# Altium schematic symbol library LibZynqEvalBoard.SchLib: 81 symbols (part 2 of 2)
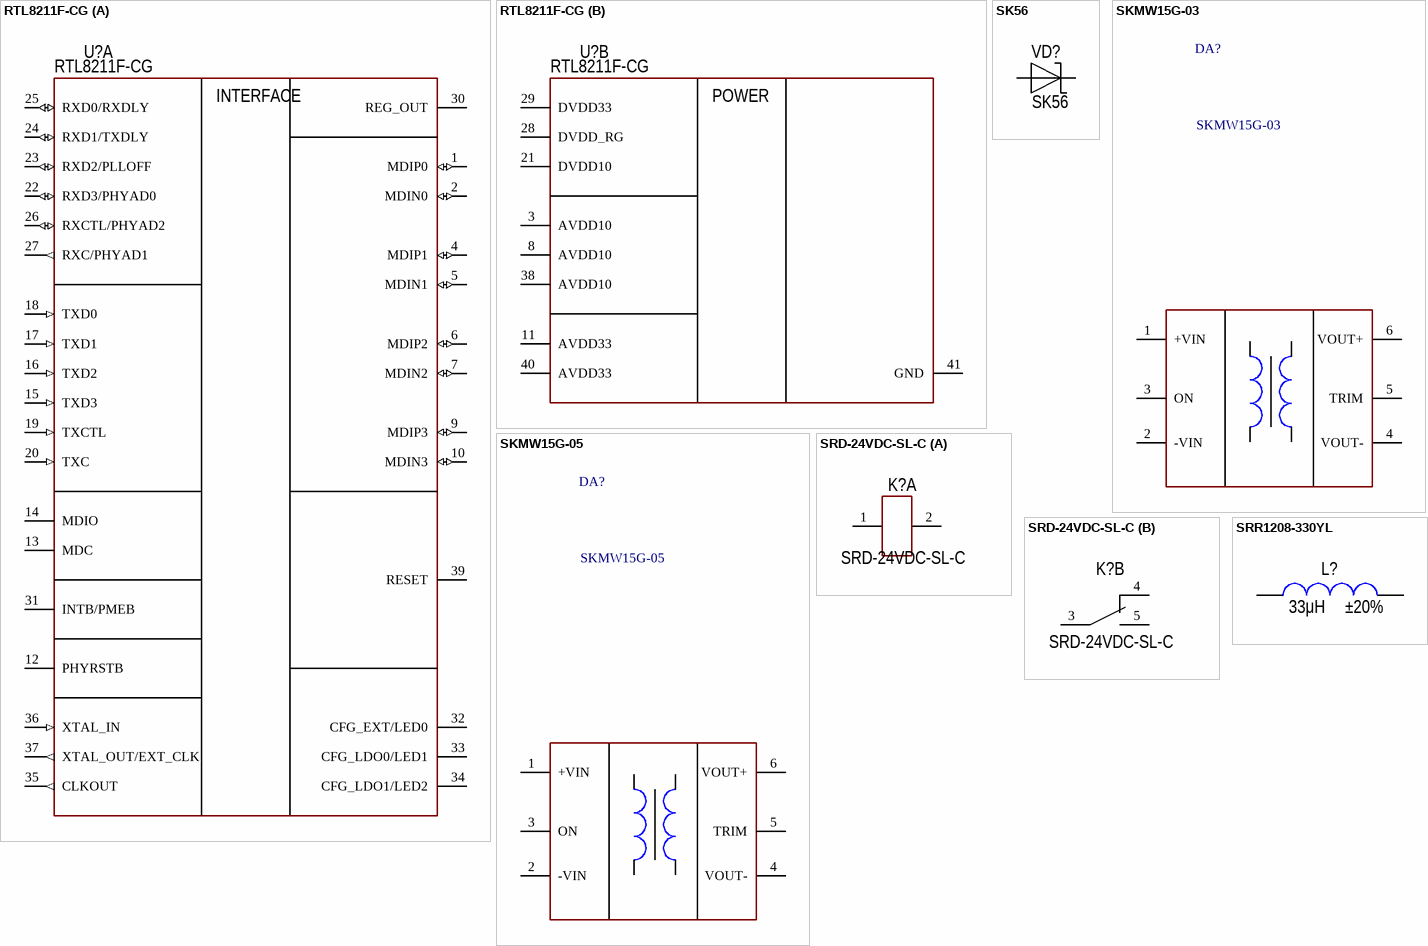
[diagram p12: symbols RTL8211F-CG to SRR1208-330YL]

## SKMW15G-03
designator DA?
Isolated DC/DC Converters 18-75Vin 5V 3A 15W DIP 1x1 Iso Reg; Manufacturer_Name: Mean Well; Geometry.Height: 11.2mm; Mouser Part Number: SKMW15G-03; Mouser Price/Stock: https://www.mouser.co.uk/ProductDetail/MEAN-WELL/SKMW15G-05?qs=hWgE7mdIu5TatoZEeiqfiA%3D%3D; Arrow Part Number: *; Arrow Price/Stock: *; Datasheet Link: http://www.meanwell.com.tw/webapp/product/search.aspx?prod=SKMW15; PartNumber: SKMW15G-03
footprint DC:SKMW15G05
pins: 1 +VIN (power), 2 -VIN (power), 3 ON (power), 4 VOUT- (power), 5 TRIM (power), 6 VOUT+ (power)

## SKMW15G-05
designator DA?
Isolated DC/DC Converters 18-75Vin 5V 3A 15W DIP 1x1 Iso Reg; Manufacturer_Name: Mean Well; Geometry.Height: 11.2mm; Mouser Part Number: 709-SKMW15G-05; Mouser Price/Stock: https://www.mouser.co.uk/ProductDetail/MEAN-WELL/SKMW15G-05?qs=hWgE7mdIu5TatoZEeiqfiA%3D%3D; Arrow Part Number: *; Arrow Price/Stock: *; Datasheet Link: http://www.meanwell.com.tw/webapp/product/search.aspx?prod=SKMW15; PartNumber: SKMW15G-05
footprint DC:SKMW15G05
pins: 1 +VIN (power), 2 -VIN (power), 3 ON (power), 4 VOUT- (power), 5 TRIM (power), 6 VOUT+ (power)

## SRD-24VDC-SL-C
designator K?  PartNumber: SRD-24VDC-SL-C
Manufacturer: SONGLE; ValueManufacturerPartNumber: Electromechanics relay, 24VDC, 250VAC, 10A, 1NO-1NC, -40...+85°C; TypeRelay: Electromechanics relay; VoltageMax: 250VAC; VoltageControlCoil: 24VDC; MaxCurrent: 10A; Package: 1NO-1NC; HelpURL: https://smdx.ru/srd-24vdc-sl-c?frommarket=https%3A%2F%2Fmarket.yandex.ru%2Fsearch%3Frs%3DeJwzSvKS4xIL9w9KjzcNitf1jkoNzCoLdQoodMovl2BUYNBgAMmHhgSEROQYGqXEV0VFujm7eucZFvg4IuRNi8IydTMKqqrikwuLCsyqHM1y3S3TIfIRDABLfBo8%26text%3Dsrd-24vdc-sl-c%26lr%3D2%26wprid%3D1621599515404748-9097901062674496&ymclid=16215995571057768628600002; Temperature: -40...+85°C
footprint REL: SRD-24VDC
part A pins: 1, 2
part B pins: 3, 4, 5

## SRR1208-330YL
designator L?  value 33μH  Tolerance: ±20%
Manufacturer: Bourns; PartNumber: SRR1208-330YL; ValueManufacturerPartNumber: Fixed inductor, 33μH, ±20%, SRR1208, 2.8mA, -55...+125°C; TypeInductor: Fixed inductor; MaxCurrent: 2.8mA; Package: SRR1208; HelpURL: https://static.chipdip.ru/lib/170/DOC011170276.pdf; Temperature: -55...+125°C
footprint IND: SRR1208
pins: 1, 2

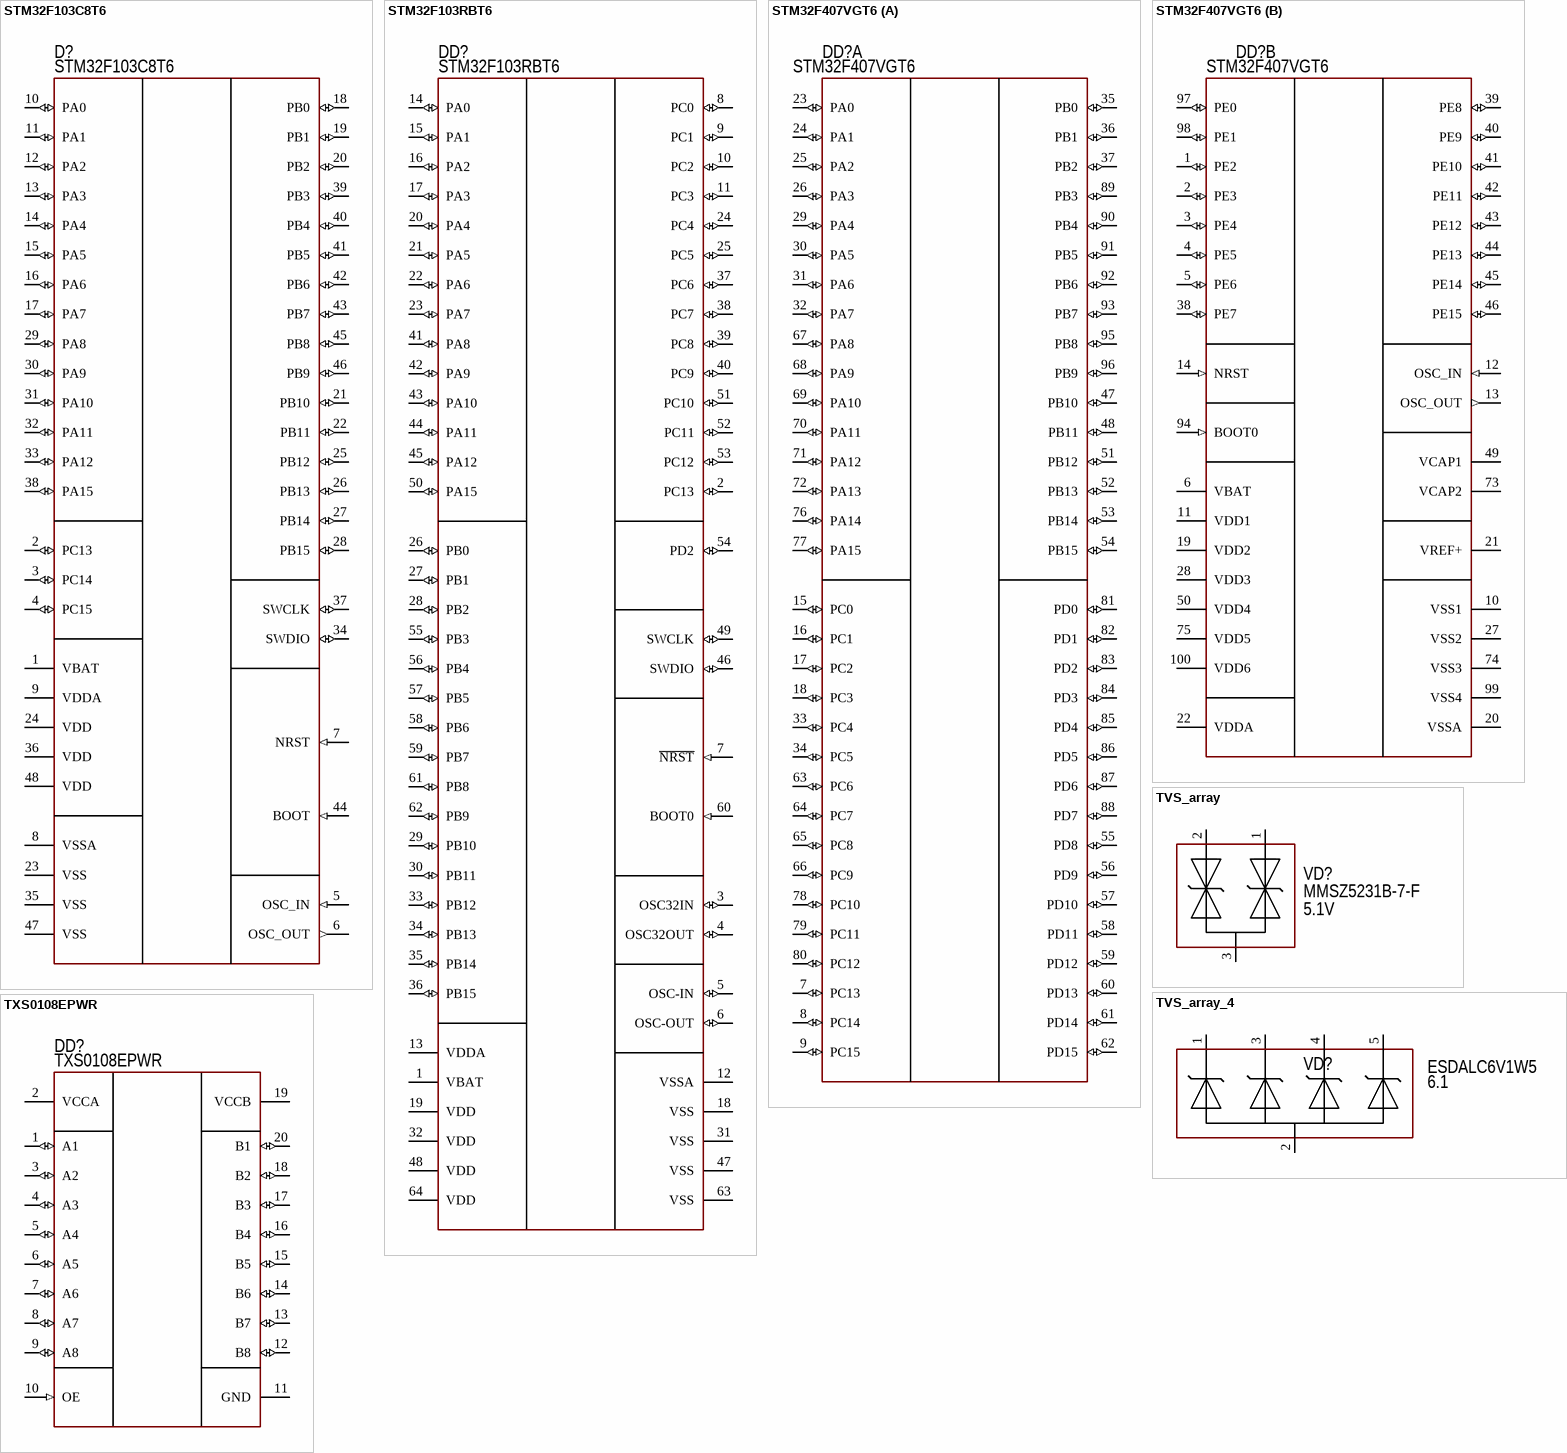
[diagram p8: symbols STM32F103C8T6 to TXS0108EPWR]

## STM32F103C8T6
designator D?  PartNumber: STM32F103C8T6
Cortex-M3; Manufacturer: STMicroelectronics; ValueManufacturerPartNumber: IC microcontroller, 32-Bit, Cortex-M3, 72MHz, 128KB, 20KB, 2...3.6V, -40...+85°C, 48-LQFP; Supply: 2...3.6V; Speed: 72MHz; CoreSize: 32-Bit; MemoryROM: 128KB; MemoryRAM: 20KB; HelpURL: https://www.st.com/en/microcontrollers-microprocessors/stm32f103cb.html; Package: 48-LQFP; ComponentType: IC microcontroller; Temperature: -40...+85°C; CoreProcessor: Cortex-M3
footprint 48-LQFP (QFP, 48-Leads, Body 7x7mm, Pitch 0.5mm, IPC Medium Density)
pins: 1 VBAT (power), 2 PC13 (io), 3 PC14 (io), 4 PC15 (io), 5 OSC_IN (in), 6 OSC_OUT (out), 7 NRST (in), 8 VSSA (power), 9 VDDA (power), 10 PA0 (io), 11 PA1 (io), 12 PA2 (io), 13 PA3 (io), 14 PA4 (io), 15 PA5 (io), 16 PA6 (io), 17 PA7 (io), 18 PB0 (io), 19 PB1 (io), 20 PB2 (io), 21 PB10 (io), 22 PB11 (io), 23 VSS (power), 24 VDD (power), 25 PB12 (io), 26 PB13 (io), 27 PB14 (io), 28 PB15 (io), 29 PA8 (io), 30 PA9 (io), 31 PA10 (io), 32 PA11 (io), 33 PA12 (io), 34 SWDIO (io), 35 VSS (power), 36 VDD (power), 37 SWCLK (io), 38 PA15 (io), 39 PB3 (io), 40 PB4 (io), 41 PB5 (io), 42 PB6 (io), 43 PB7 (io), 44 BOOT (in), 45 PB8 (io), 46 PB9 (io), 47 VSS (power), 48 VDD (power)

## STM32F103RBT6
designator DD?  PartNumber: STM32F103RBT6
Cortex-M3; Manufacturer: STMicroelectronics; ValueManufacturerPartNumber: IC microcontroller, 32-Bit, Cortex-M3, 72MHz, 128KB, 20KB, 2...3.6V, -40...+85°C, 64-LQFP; Supply: 2...3.6V; Speed: 72MHz; CoreSize: 32-Bit; MemoryROM: 128KB; MemoryRAM: 20KB; HelpURL: https://www.st.com/en/microcontrollers-microprocessors/stm32f103rb.html#overview; Package: 64-LQFP; ComponentType: IC microcontroller; Temperature: -40...+85°C; CoreProcessor: Cortex-M3
footprint 64-LQFP (Thin QFP, 64-Leads, Body 10x10mm, Pitch 0.5mm, IPC Medium Density)
pins: 1 VBAT (power), 2 PC13 (io), 3 OSC32IN (io), 4 OSC32OUT (io), 5 OSC-IN (io), 6 OSC-OUT (io), 7 ~{NRST} (in), 8 PC0 (io), 9 PC1 (io), 10 PC2 (io), 11 PC3 (io), 12 VSSA (power), 13 VDDA (power), 14 PA0 (io), 15 PA1 (io), 16 PA2 (io), 17 PA3 (io), 18 VSS (power), 19 VDD (power), 20 PA4 (io), 21 PA5 (io), 22 PA6 (io), 23 PA7 (io), 24 PC4 (io), 25 PC5 (io), 26 PB0 (io), 27 PB1 (io), 28 PB2 (io), 29 PB10 (io), 30 PB11 (io), 31 VSS (power), 32 VDD (power), 33 PB12 (io), 34 PB13 (io), 35 PB14 (io), 36 PB15 (io), 37 PC6 (io), 38 PC7 (io), 39 PC8 (io), 40 PC9 (io), 41 PA8 (io), 42 PA9 (io), 43 PA10 (io), 44 PA11 (io), 45 PA12 (io), 46 SWDIO (io), 47 VSS (power), 48 VDD (power), 49 SWCLK (io), 50 PA15 (io), 51 PC10 (io), 52 PC11 (io), 53 PC12 (io), 54 PD2 (io), 55 PB3 (io), 56 PB4 (io), 57 PB5 (io), 58 PB6 (io), 59 PB7 (io), 60 BOOT0 (in), 61 PB8 (io), 62 PB9 (io), 63 VSS (power), 64 VDD (power)

## STM32F407VGT6
designator DD?  PartNumber: STM32F407VGT6
MCU 32-Bit, ARM Cortex M4, 1MB Flash STMicroelectronics STM32F407VGT6, 32bit ARM Cortex M4F Microcontroller, 168MHz, 1024 kB Flash, 100-Pin LQFP; ValueManufacturerPartNumber: IC microcontroller, 32-Bit, Cortex-M4, 72MHz, 1 M(1m x 8), 192k x 8, 2...3.6V, -40...+85°C, 100-LQFP; Supply: 2...3.6V; Speed: 72MHz; MemoryROM: 1 M(1m x 8); MemoryRAM: 192k x 8; CoreProcessor: Cortex-M4; Manufacturer: STMicroelectronics; HelpURL: https://www.st.com/en/microcontrollers-microprocessors/stm32f103cb.html; Package: 100-LQFP; ComponentType: IC microcontroller; Temperature: -40...+85°C; CoreSize: 32-Bit
footprint MCU: LQFP100
part A pins: 7 PC13 (io), 8 PC14 (io), 9 PC15 (io), 15 PC0 (io), 16 PC1 (io), 17 PC2 (io), 18 PC3 (io), 23 PA0 (io), 24 PA1 (io), 25 PA2 (io), 26 PA3 (io), 29 PA4 (io), 30 PA5 (io), 31 PA6 (io), 32 PA7 (io), 33 PC4 (io), 34 PC5 (io), 35 PB0 (io), 36 PB1 (io), 37 PB2 (io), 47 PB10 (io), 48 PB11 (io), 51 PB12 (io), 52 PB13 (io), 53 PB14 (io), 54 PB15 (io), 55 PD8 (io), 56 PD9 (io), 57 PD10 (io), 58 PD11 (io), 59 PD12 (io), 60 PD13 (io), 61 PD14 (io), 62 PD15 (io), 63 PC6 (io), 64 PC7 (io), 65 PC8 (io), 66 PC9 (io), 67 PA8 (io), 68 PA9 (io), 69 PA10 (io), 70 PA11 (io), 71 PA12 (io), 72 PA13 (io), 76 PA14 (io), 77 PA15 (io), 78 PC10 (io), 79 PC11 (io), 80 PC12 (io), 81 PD0 (io), 82 PD1 (io), 83 PD2 (io), 84 PD3 (io), 85 PD4 (io), 86 PD5 (io), 87 PD6 (io), 88 PD7 (io), 89 PB3 (io), 90 PB4 (io), 91 PB5 (io), 92 PB6 (io), 93 PB7 (io), 95 PB8 (io), 96 PB9 (io)
part B pins: 1 PE2 (io), 2 PE3 (io), 3 PE4 (io), 4 PE5 (io), 5 PE6 (io), 6 VBAT (power), 10 VSS1 (power), 11 VDD1 (power), 12 OSC_IN (in), 13 OSC_OUT (out), 14 NRST (in), 19 VDD2 (power), 20 VSSA (power), 21 VREF+ (power), 22 VDDA (power), 27 VSS2 (power), 28 VDD3 (power), 38 PE7 (io), 39 PE8 (io), 40 PE9 (io), 41 PE10 (io), 42 PE11 (io), 43 PE12 (io), 44 PE13 (io), 45 PE14 (io), 46 PE15 (io), 49 VCAP1 (power), 50 VDD4 (power), 73 VCAP2 (power), 74 VSS3 (power), 75 VDD5 (power), 94 BOOT0 (in), 97 PE0 (io), 98 PE1 (io), 99 VSS4 (power), 100 VDD6 (power)

## TVS_array
designator VD?  Voltage: 5.1V  PartNumber: MMSZ5231B-7-F
Manufacturer: Diodes Incorporated; ValueManufacturerPartNumber: Zener diode, 5.1V, 500mW, 0.9V, 17Ohm, SOD-123, -55...+150°C; TypeDiode: Zener diode; Current: 500mW; VoltageDrop: 0.9V; RecoveryTime: 17Ohm; Package: SOD-123; HelpURL: https://www.digikey.com/product-detail/en/diodes-incorporated/MMSZ5231B-7-F/MMSZ5231B-FDICT-ND/755506; Temperature: -55...+150°C
footprint SOT23
pins: 1, 2, 3

## TVS_array_4
designator VD?  Voltage: 6.1  PartNumber: ESDALC6V1W5
QUAD TRANSIL ARRAY FOR ESD PROTECTION; Manufacturer: STMicroelectronics; ValueManufacturerPartNumber: TVS array diode, 6.1, 500mW, 0.9V, 17Ohm, SOT23-5, -55...+150°C; TypeDiode: TVS array diode; Current: 500mW; VoltageDrop: 0.9V; RecoveryTime: 17Ohm; Package: SOT23-5; HelpURL: https://www.st.com/en/protections-and-emi-filters/esdalc6v1w.html; Temperature: -55...+150°C
footprint SOT23-5 (pitch 0.95 mm)
pins: 1, 2, 3, 4, 5

## TXS0108EPWR
designator DD?  PartNumber: TXS0108EPWR
1.65V~5.5V 1 8 1.4V~3.6V 60Mbps TSSOP-20 Translators / Level Shifters ROHS; Manufacturer: Texas Instruments; VoltageInput: VCC(A)1.2..3.6/VCC(B)1.65..5.5; HelpURL: https://www.lcsc.com/product-detail/Translators-Level-Shifters_Texas-Instruments-TXS0108EPWR_C17206.html; Package: TSSOP-20; ComponentType: Voltage-Level Shifter; ValueManufacturerPartNumber: =ComponentType+', '+VoltageInput+', '+MaxDropout+', '+VoltageOutput+', '+CurrentOutput+', '+Temperature+', '+Package; Temperature: -40...+85°C
footprint IC:TSSOP-20
pins: 1 A1 (io), 2 VCCA, 3 A2 (io), 4 A3 (io), 5 A4 (io), 6 A5 (io), 7 A6 (io), 8 A7 (io), 9 A8 (io), 10 OE (in), 11 GND, 12 B8 (io), 13 B7 (io), 14 B6 (io), 15 B5 (io), 16 B4 (io), 17 B3 (io), 18 B2 (io), 19 VCCB, 20 B1 (io)

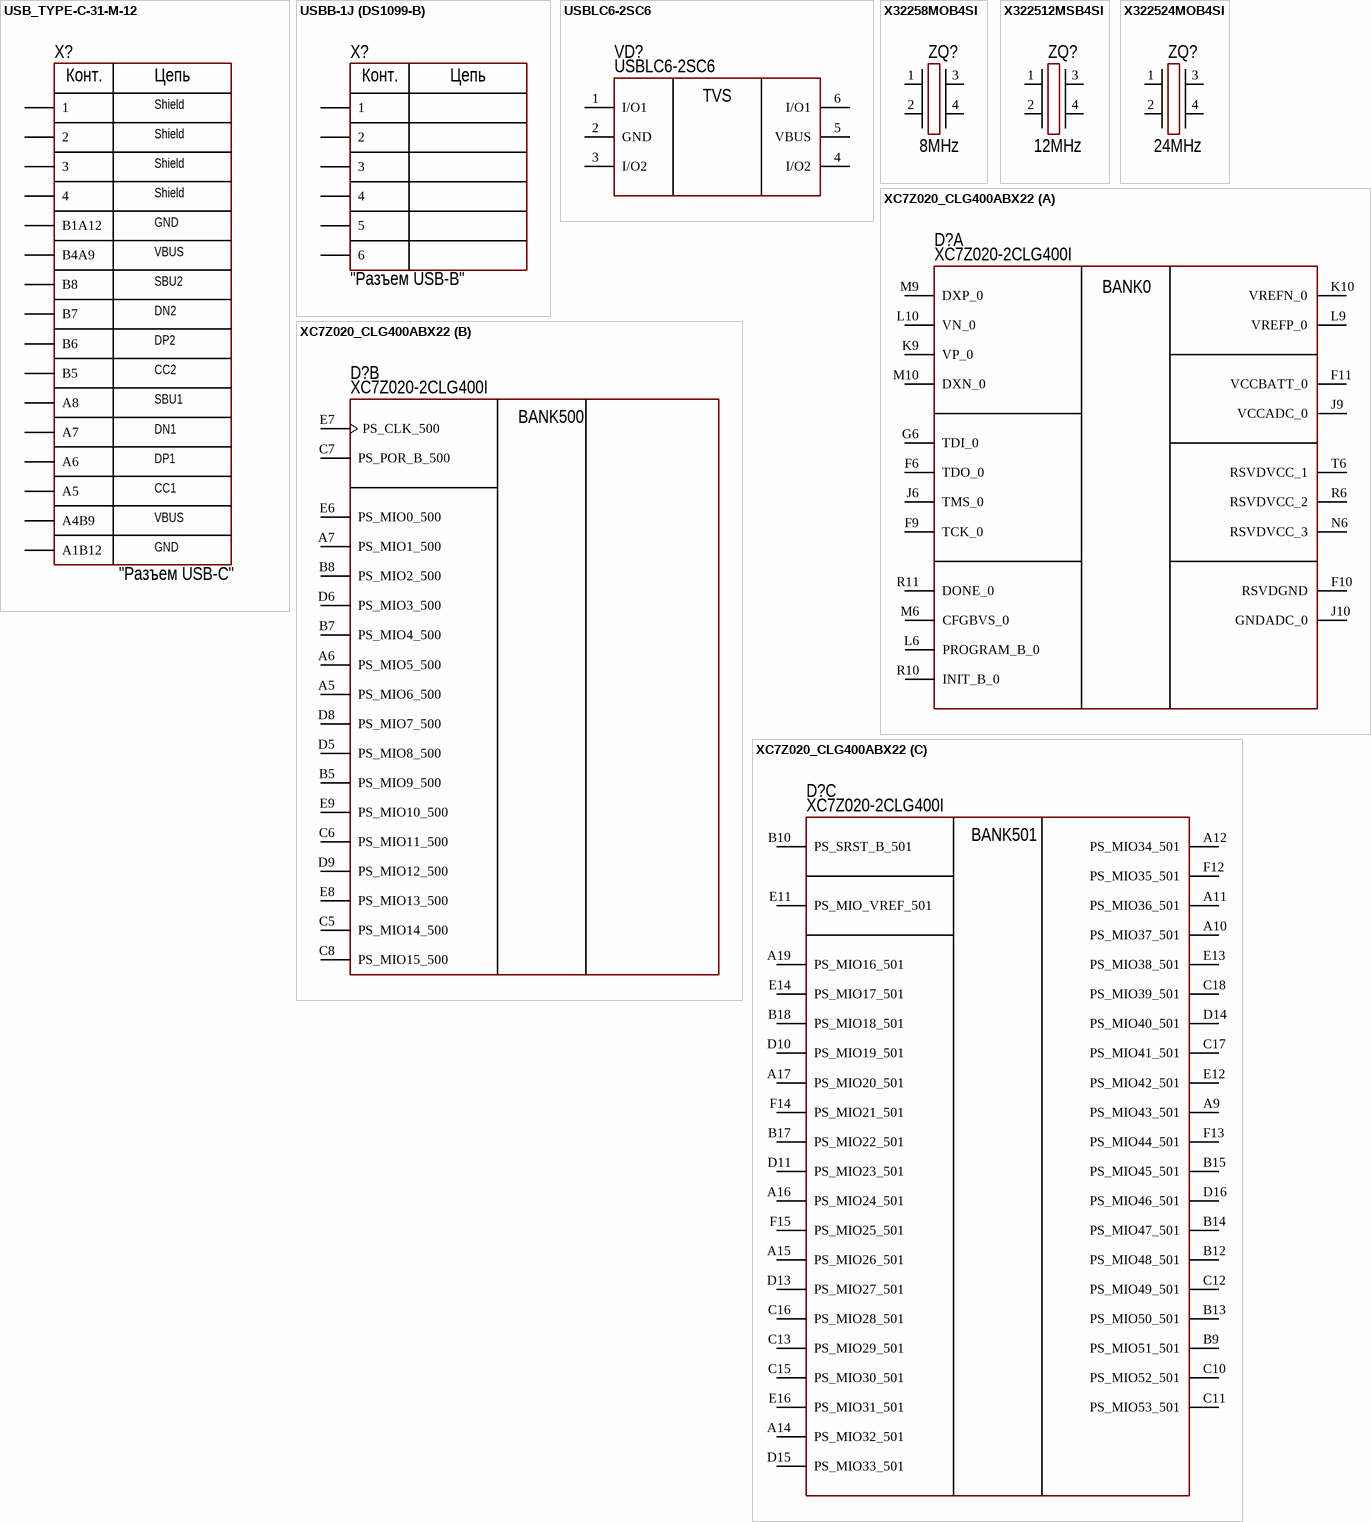
[diagram p9: symbols USB_TYPE-C-31-M-12 to XC7Z020_CLG400ABX22]

## USB_TYPE-C-31-M-12
designator X?  CommentText: "Разъем USB-C"
5A 1 16P Female Type-C SMD USB Connectors ROHS; Manufacturer: Korean Hroparts Elec; ValueManufacturerPartNumber: Connector, 14pin, *, *, *; PartNumber: TYPE-C-31-M-12; Multichannel: 14pin; HelpURL: https://www.lcsc.com/product-detail/USB-Connectors_Korean-Hroparts-Elec-TYPE-C-31-M-12_C165948.html; TypeConnector: Connector; VoltageMax: *; Pitch: *; CurrentMax: *
footprint CON: TYPE-C-31-M-12
pins: 1, 2, 3 (power), 4 (power), A1B12 (power), A4B9 (power), A5 (power), A6 (power), A7 (power), A8 (power), B1A12 (power), B4A9 (power), B5 (power), B6 (power), B7 (power), B8 (power)
text: Конт.; Цепь; Shield; GND; VBUS; SBU2; DN2; DP2; CC2; SBU1; DN1; DP1; CC1

## USBB-1J (DS1099-B)
designator X?  CommentText: "Разъем USB-B"
Manufacturer: Connfly; ValueManufacturerPartNumber: Connector, 6pin, *, *, *; PartNumber: USBB-1J (DS1099-B); TypeConnector: Connector; Multichannel: 6pin; HelpURL: https://www.chipdip.ru/product/usbb-1j-ds1099-b; VoltageMax: *; Pitch: *; CurrentMax: *
footprint CON: USB-B
pins: 1, 2, 3 (power), 4 (power), 5 (power), 6 (power)
text: Конт.; Цепь

## USBLC6-2SC6
designator VD?  PartNumber: USBLC6-2SC6
±30kV SOT-23-6 ESD Protection Devices ROHS; Manufacturer: TECH PUBLIC; ValueManufacturerPartNumber: Protection Devices ROHS, *, *, *, *, -40...+85°C, SOT-23-6; HelpURL: https://www.lcsc.com/product-detail/ESD-Protection-Devices_TECH-PUBLIC-USBLC6-2SC6_C2827654.html; Package: SOT-23-6; ComponentType: Protection Devices ROHS; Temperature: -40...+85°C; VoltageInput: *; MaxDropout: *; CurrentOutput: *; VoltageOutput: *
footprint SOT23-6 (pitch 0.95 mm)
pins: 1 I/O1, 2 GND, 3 I/O2, 4 I/O2, 5 VBUS, 6 I/O1
text: TVS

## X32258MOB4SI
designator ZQ?  Frequency: 8MHz
Manufacturer: Diodes Incorporated; PartNumber: X32258MOB4SI; ValueManufacturerPartNumber: Crystal, 8MHz, 12pF, ±30ppm, SMD3225-4P, -40...+85°C; TypeOscilator: Crystal; LoadCapacitance: 12pF; Tolerance: ±30ppm; Package: SMD3225-4P; HelpURL: https://www.lcsc.com/product-detail/Crystals_Yangxing-Tech-X32258MOB4SI_C2682775.html; Temperature: -40...+85°C
footprint X32258MOB4SI
pins: 1, 2, 3, 4

## X322512MSB4SI
designator ZQ?  Frequency: 12MHz
12MHz 20pF ±10ppm ±30ppm SMD3225-4P Crystals ROHS; Manufacturer: YXC; PartNumber: X322524MOB4SI; ValueManufacturerPartNumber: Crystal, 12MHz, 12pF, ±30ppm, SMD3225-4P, -40...+85°C; LoadCapacitance: 12pF; Package: SMD3225-4P; HelpURL: https://www.lcsc.com/product-detail/Crystals_YXC-X322512MSB4SI_C9002.html; Temperature: -40...+85°C; TypeOscilator: Crystal; Tolerance: ±30ppm
footprint X32258MOB4SI
pins: 1, 2, 3, 4

## X322524MOB4SI
designator ZQ?  Frequency: 24MHz
Manufacturer: Diodes Incorporated; PartNumber: X322524MOB4SI; ValueManufacturerPartNumber: Crystal, 24MHz, 12pF, ±30ppm, SMD3225-4P, -40...+85°C; TypeOscilator: Crystal; LoadCapacitance: 12pF; Tolerance: ±30ppm; Package: SMD3225-4P; HelpURL: https://datasheet.lcsc.com/lcsc/2305121746_Yangxing-Tech-X322524MOB4SI_C70590.pdf; Temperature: -40...+85°C
footprint X32258MOB4SI
pins: 1, 2, 3, 4

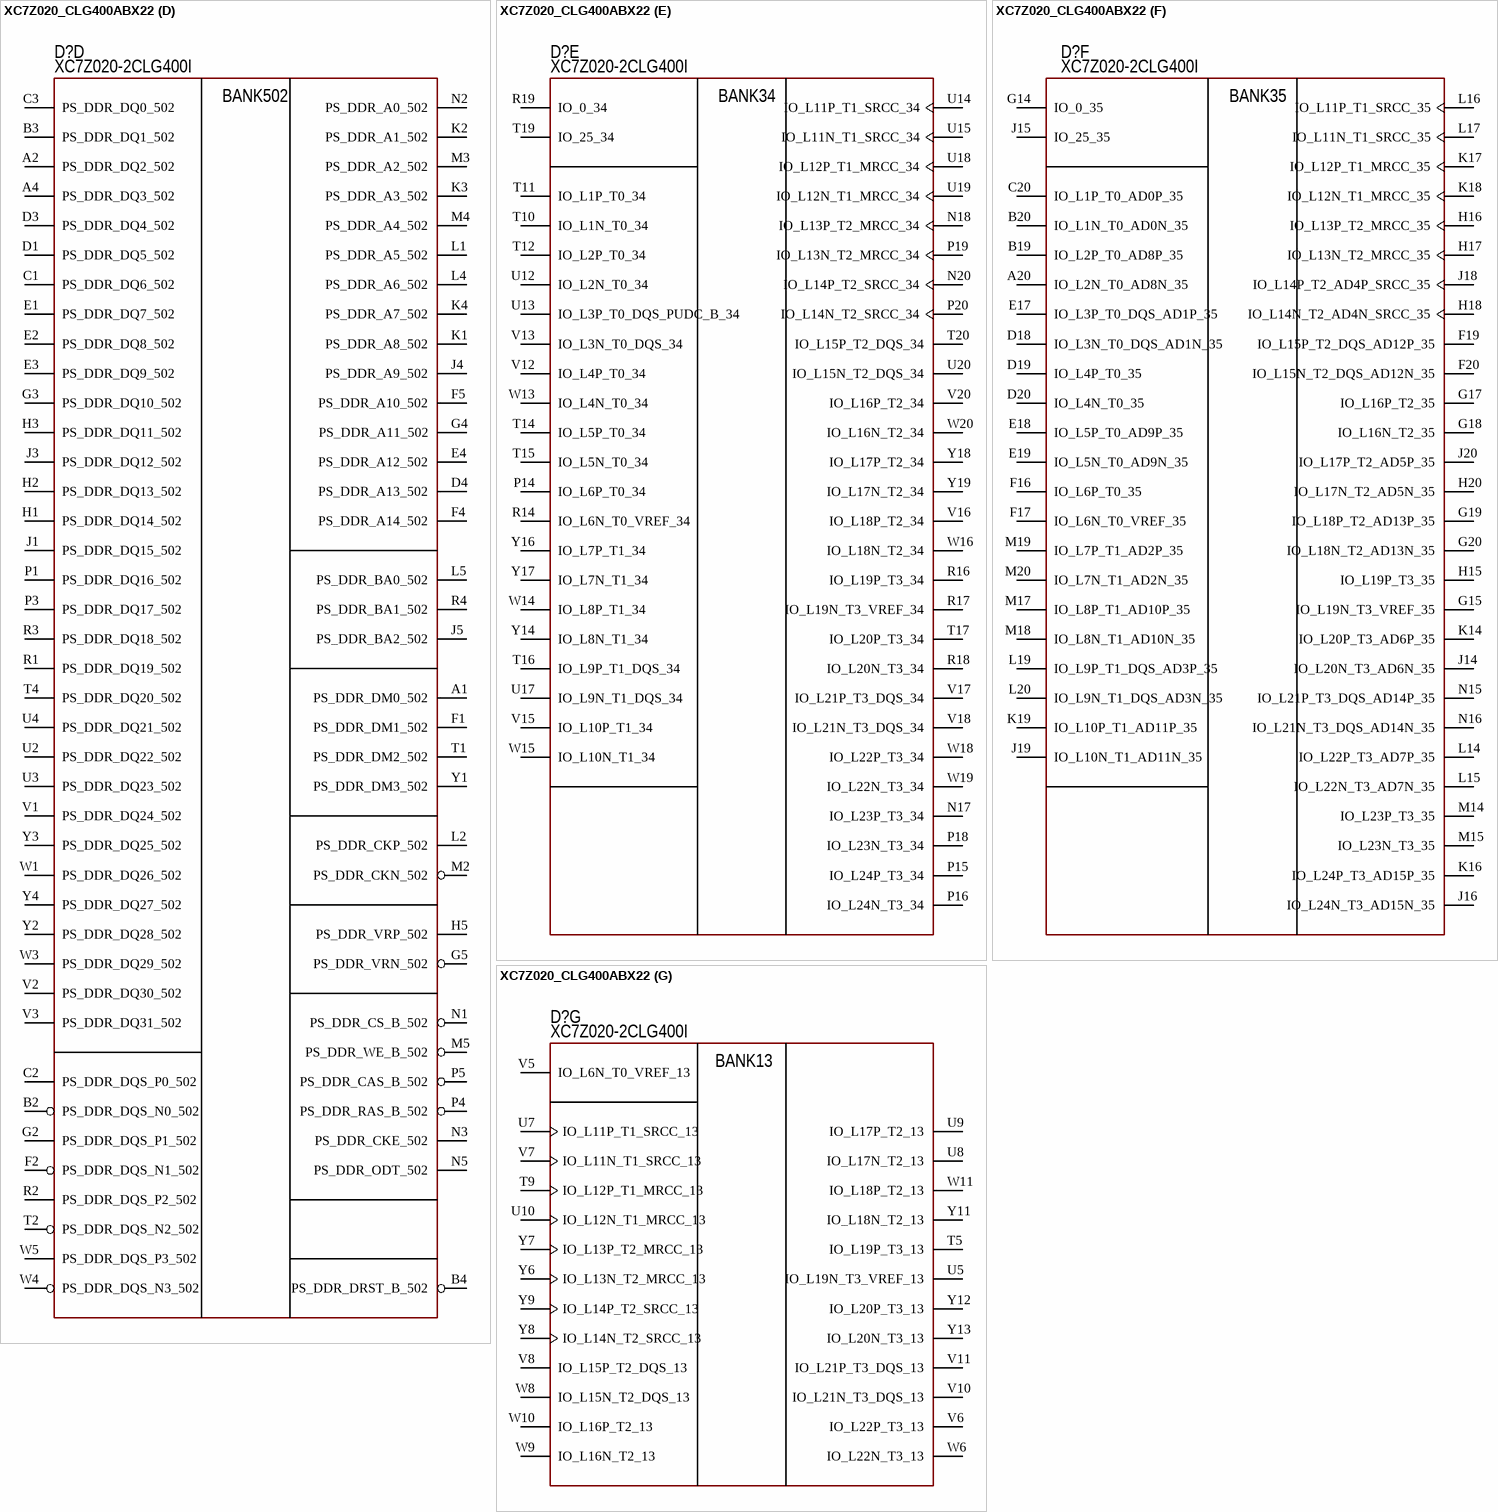
[diagram p10: symbol XC7Z020_CLG400ABX22]

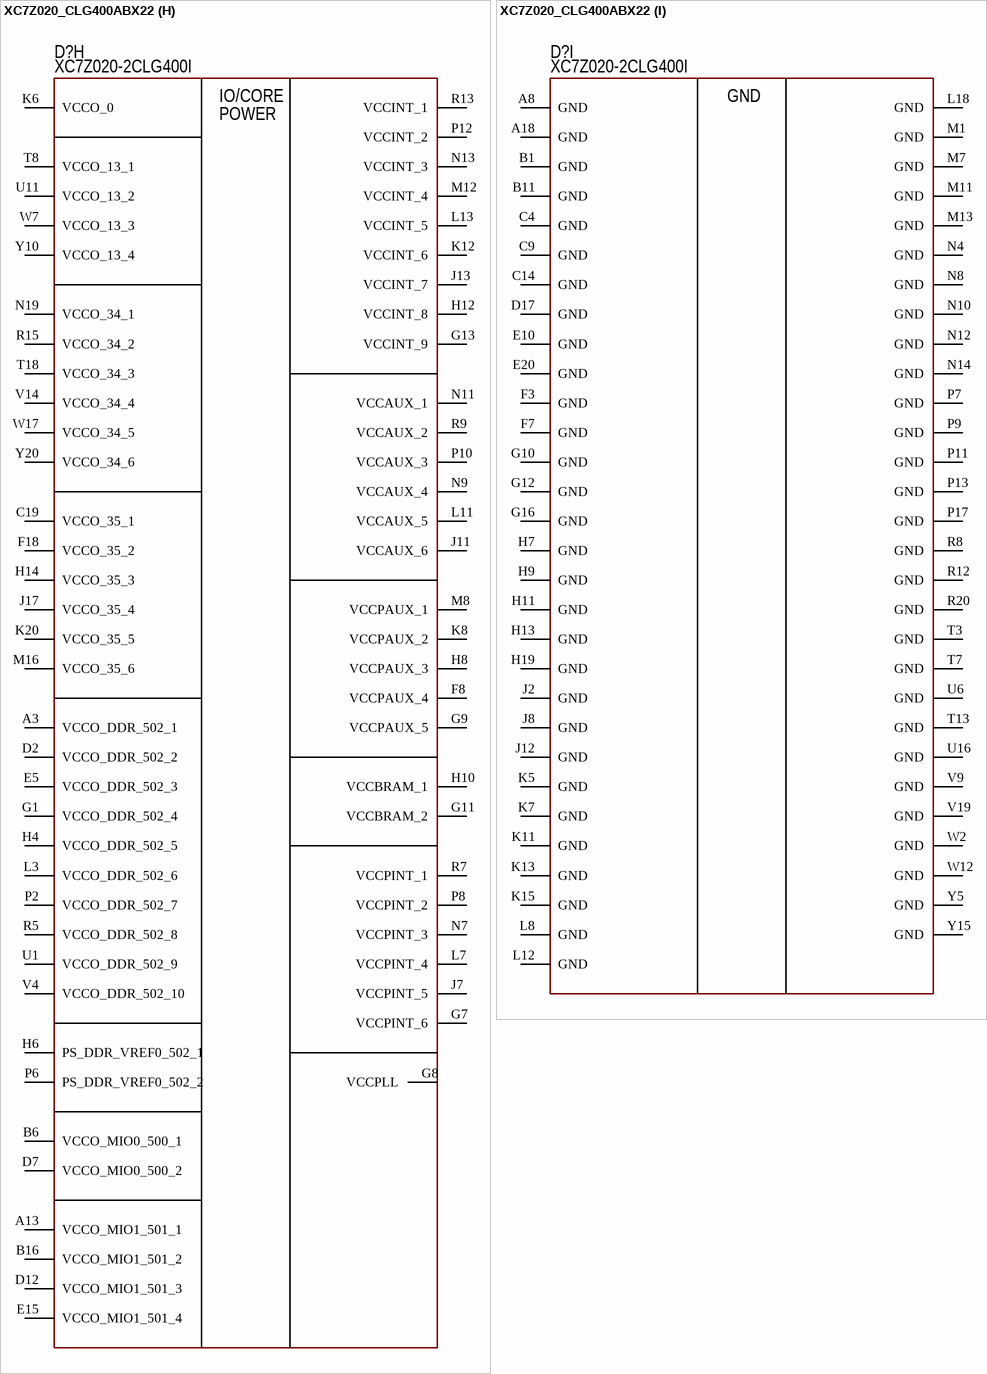
[diagram p11: symbol XC7Z020_CLG400ABX22]

## XC7Z020_CLG400ABX22
designator D?  PartNumber: XC7Z020-2CLG400I
FPGA XILINX Zynq XC7Z020; Manufacturer: AMD/XILINX; ValueManufacturerPartNumber: IC FPGA, Zynq, , , , 1.15...1.25V, 0...+85°C, CSPBGA-400; Supply: 1.15...1.25V; HelpURL: https://www.lcsc.com/product-detail/Programmable-Logic-Device-CPLDs-FPGAs_AMD-XILINX-XC7Z020-2CLG400I_C569043.html; Package: CSPBGA-400; ComponentType: IC FPGA; Temperature: 0...+85°C; Series: Zynq
footprint IC:BGA400C80P20X20_1700X1700X147 (BGA, 400-Leads, Body 17,00x17,00mmx1,47mm, Pitch 0,80mm)
part A pins: F6 TDO_0, F9 TCK_0, F10 RSVDGND, F11 VCCBATT_0, G6 TDI_0, J6 TMS_0, J9 VCCADC_0, J10 GNDADC_0, K9 VP_0, K10 VREFN_0, L6 PROGRAM_B_0, L9 VREFP_0, L10 VN_0, M6 CFGBVS_0, M9 DXP_0, M10 DXN_0, N6 RSVDVCC_3, R6 RSVDVCC_2, R10 INIT_B_0, R11 DONE_0, T6 RSVDVCC_1
part B pins: A5 PS_MIO6_500, A6 PS_MIO5_500, A7 PS_MIO1_500, B5 PS_MIO9_500, B7 PS_MIO4_500, B8 PS_MIO2_500, C5 PS_MIO14_500, C6 PS_MIO11_500, C7 PS_POR_B_500, C8 PS_MIO15_500, D5 PS_MIO8_500, D6 PS_MIO3_500, D8 PS_MIO7_500, D9 PS_MIO12_500, E6 PS_MIO0_500, E7 PS_CLK_500, E8 PS_MIO13_500, E9 PS_MIO10_500
part C pins: A9 PS_MIO43_501, A10 PS_MIO37_501, A11 PS_MIO36_501, A12 PS_MIO34_501, A14 PS_MIO32_501, A15 PS_MIO26_501, A16 PS_MIO24_501, A17 PS_MIO20_501, A19 PS_MIO16_501, B9 PS_MIO51_501, B10 PS_SRST_B_501, B12 PS_MIO48_501, B13 PS_MIO50_501, B14 PS_MIO47_501, B15 PS_MIO45_501, B17 PS_MIO22_501, B18 PS_MIO18_501, C10 PS_MIO52_501, C11 PS_MIO53_501, C12 PS_MIO49_501, C13 PS_MIO29_501, C15 PS_MIO30_501, C16 PS_MIO28_501, C17 PS_MIO41_501, C18 PS_MIO39_501, D10 PS_MIO19_501, D11 PS_MIO23_501, D13 PS_MIO27_501, D14 PS_MIO40_501, D15 PS_MIO33_501, D16 PS_MIO46_501, E11 PS_MIO_VREF_501, E12 PS_MIO42_501, E13 PS_MIO38_501, E14 PS_MIO17_501, E16 PS_MIO31_501, F12 PS_MIO35_501, F13 PS_MIO44_501, F14 PS_MIO21_501, F15 PS_MIO25_501
part D pins: A1 PS_DDR_DM0_502, A2 PS_DDR_DQ2_502, A4 PS_DDR_DQ3_502, B2 PS_DDR_DQS_N0_502, B3 PS_DDR_DQ1_502, B4 PS_DDR_DRST_B_502, C1 PS_DDR_DQ6_502, C2 PS_DDR_DQS_P0_502, C3 PS_DDR_DQ0_502, D1 PS_DDR_DQ5_502, D3 PS_DDR_DQ4_502, D4 PS_DDR_A13_502, E1 PS_DDR_DQ7_502, E2 PS_DDR_DQ8_502, E3 PS_DDR_DQ9_502, E4 PS_DDR_A12_502, F1 PS_DDR_DM1_502, F2 PS_DDR_DQS_N1_502, F4 PS_DDR_A14_502, F5 PS_DDR_A10_502, G2 PS_DDR_DQS_P1_502, G3 PS_DDR_DQ10_502, G4 PS_DDR_A11_502, G5 PS_DDR_VRN_502, H1 PS_DDR_DQ14_502, H2 PS_DDR_DQ13_502, H3 PS_DDR_DQ11_502, H5 PS_DDR_VRP_502, J1 PS_DDR_DQ15_502, J3 PS_DDR_DQ12_502, J4 PS_DDR_A9_502, J5 PS_DDR_BA2_502, K1 PS_DDR_A8_502, K2 PS_DDR_A1_502, K3 PS_DDR_A3_502, K4 PS_DDR_A7_502, L1 PS_DDR_A5_502, L2 PS_DDR_CKP_502, L4 PS_DDR_A6_502, L5 PS_DDR_BA0_502, M2 PS_DDR_CKN_502, M3 PS_DDR_A2_502, M4 PS_DDR_A4_502, M5 PS_DDR_WE_B_502, N1 PS_DDR_CS_B_502, N2 PS_DDR_A0_502, N3 PS_DDR_CKE_502, N5 PS_DDR_ODT_502, P1 PS_DDR_DQ16_502, P3 PS_DDR_DQ17_502, P4 PS_DDR_RAS_B_502, P5 PS_DDR_CAS_B_502, R1 PS_DDR_DQ19_502, R2 PS_DDR_DQS_P2_502, R3 PS_DDR_DQ18_502, R4 PS_DDR_BA1_502, T1 PS_DDR_DM2_502, T2 PS_DDR_DQS_N2_502, T4 PS_DDR_DQ20_502, U2 PS_DDR_DQ22_502, U3 PS_DDR_DQ23_502, U4 PS_DDR_DQ21_502, V1 PS_DDR_DQ24_502, V2 PS_DDR_DQ30_502, V3 PS_DDR_DQ31_502, W1 PS_DDR_DQ26_502, W3 PS_DDR_DQ29_502, W4 PS_DDR_DQS_N3_502, W5 PS_DDR_DQS_P3_502, Y1 PS_DDR_DM3_502, Y2 PS_DDR_DQ28_502, Y3 PS_DDR_DQ25_502, Y4 PS_DDR_DQ27_502
part E pins: N17 IO_L23P_T3_34, N18 IO_L13P_T2_MRCC_34, N20 IO_L14P_T2_SRCC_34, P14 IO_L6P_T0_34, P15 IO_L24P_T3_34, P16 IO_L24N_T3_34, P18 IO_L23N_T3_34, P19 IO_L13N_T2_MRCC_34, P20 IO_L14N_T2_SRCC_34, R14 IO_L6N_T0_VREF_34, R16 IO_L19P_T3_34, R17 IO_L19N_T3_VREF_34, R18 IO_L20N_T3_34, R19 IO_0_34, T10 IO_L1N_T0_34, T11 IO_L1P_T0_34, T12 IO_L2P_T0_34, T14 IO_L5P_T0_34, T15 IO_L5N_T0_34, T16 IO_L9P_T1_DQS_34, T17 IO_L20P_T3_34, T19 IO_25_34, T20 IO_L15P_T2_DQS_34, U12 IO_L2N_T0_34, U13 IO_L3P_T0_DQS_PUDC_B_34, U14 IO_L11P_T1_SRCC_34, U15 IO_L11N_T1_SRCC_34, U17 IO_L9N_T1_DQS_34, U18 IO_L12P_T1_MRCC_34, U19 IO_L12N_T1_MRCC_34, U20 IO_L15N_T2_DQS_34, V12 IO_L4P_T0_34, V13 IO_L3N_T0_DQS_34, V15 IO_L10P_T1_34, V16 IO_L18P_T2_34, V17 IO_L21P_T3_DQS_34, V18 IO_L21N_T3_DQS_34, V20 IO_L16P_T2_34, W13 IO_L4N_T0_34, W14 IO_L8P_T1_34, W15 IO_L10N_T1_34, W16 IO_L18N_T2_34, W18 IO_L22P_T3_34, W19 IO_L22N_T3_34, W20 IO_L16N_T2_34, Y14 IO_L8N_T1_34, Y16 IO_L7P_T1_34, Y17 IO_L7N_T1_34, Y18 IO_L17P_T2_34, Y19 IO_L17N_T2_34
part F pins: A20 IO_L2N_T0_AD8N_35, B19 IO_L2P_T0_AD8P_35, B20 IO_L1N_T0_AD0N_35, C20 IO_L1P_T0_AD0P_35, D18 IO_L3N_T0_DQS_AD1N_35, D19 IO_L4P_T0_35, D20 IO_L4N_T0_35, E17 IO_L3P_T0_DQS_AD1P_35, E18 IO_L5P_T0_AD9P_35, E19 IO_L5N_T0_AD9N_35, F16 IO_L6P_T0_35, F17 IO_L6N_T0_VREF_35, F19 IO_L15P_T2_DQS_AD12P_35, F20 IO_L15N_T2_DQS_AD12N_35, G14 IO_0_35, G15 IO_L19N_T3_VREF_35, G17 IO_L16P_T2_35, G18 IO_L16N_T2_35, G19 IO_L18P_T2_AD13P_35, G20 IO_L18N_T2_AD13N_35, H15 IO_L19P_T3_35, H16 IO_L13P_T2_MRCC_35, H17 IO_L13N_T2_MRCC_35, H18 IO_L14N_T2_AD4N_SRCC_35, H20 IO_L17N_T2_AD5N_35, J14 IO_L20N_T3_AD6N_35, J15 IO_25_35, J16 IO_L24N_T3_AD15N_35, J18 IO_L14P_T2_AD4P_SRCC_35, J19 IO_L10N_T1_AD11N_35, J20 IO_L17P_T2_AD5P_35, K14 IO_L20P_T3_AD6P_35, K16 IO_L24P_T3_AD15P_35, K17 IO_L12P_T1_MRCC_35, K18 IO_L12N_T1_MRCC_35, K19 IO_L10P_T1_AD11P_35, L14 IO_L22P_T3_AD7P_35, L15 IO_L22N_T3_AD7N_35, L16 IO_L11P_T1_SRCC_35, L17 IO_L11N_T1_SRCC_35, L19 IO_L9P_T1_DQS_AD3P_35, L20 IO_L9N_T1_DQS_AD3N_35, M14 IO_L23P_T3_35, M15 IO_L23N_T3_35, M17 IO_L8P_T1_AD10P_35, M18 IO_L8N_T1_AD10N_35, M19 IO_L7P_T1_AD2P_35, M20 IO_L7N_T1_AD2N_35, N15 IO_L21P_T3_DQS_AD14P_35, N16 IO_L21N_T3_DQS_AD14N_35
part G pins: T5 IO_L19P_T3_13, T9 IO_L12P_T1_MRCC_13, U5 IO_L19N_T3_VREF_13, U7 IO_L11P_T1_SRCC_13, U8 IO_L17N_T2_13, U9 IO_L17P_T2_13, U10 IO_L12N_T1_MRCC_13, V5 IO_L6N_T0_VREF_13, V6 IO_L22P_T3_13, V7 IO_L11N_T1_SRCC_13, V8 IO_L15P_T2_DQS_13, V10 IO_L21N_T3_DQS_13, V11 IO_L21P_T3_DQS_13, W6 IO_L22N_T3_13, W8 IO_L15N_T2_DQS_13, W9 IO_L16N_T2_13, W10 IO_L16P_T2_13, W11 IO_L18P_T2_13, Y6 IO_L13N_T2_MRCC_13, Y7 IO_L13P_T2_MRCC_13, Y8 IO_L14N_T2_SRCC_13, Y9 IO_L14P_T2_SRCC_13, Y11 IO_L18N_T2_13, Y12 IO_L20P_T3_13, Y13 IO_L20N_T3_13
part H pins: A3 VCCO_DDR_502_1, A13 VCCO_MIO1_501_1, B6 VCCO_MIO0_500_1, B16 VCCO_MIO1_501_2, C19 VCCO_35_1, D2 VCCO_DDR_502_2, D7 VCCO_MIO0_500_2, D12 VCCO_MIO1_501_3, E5 VCCO_DDR_502_3, E15 VCCO_MIO1_501_4, F8 VCCPAUX_4, F18 VCCO_35_2, G1 VCCO_DDR_502_4, G7 VCCPINT_6, G8 VCCPLL, G9 VCCPAUX_5, G11 VCCBRAM_2, G13 VCCINT_9, H4 VCCO_DDR_502_5, H6 PS_DDR_VREF0_502_1, H8 VCCPAUX_3, H10 VCCBRAM_1, H12 VCCINT_8, H14 VCCO_35_3, J7 VCCPINT_5, J11 VCCAUX_6, J13 VCCINT_7, J17 VCCO_35_4, K6 VCCO_0, K8 VCCPAUX_2, K12 VCCINT_6, K20 VCCO_35_5, L3 VCCO_DDR_502_6, L7 VCCPINT_4, L11 VCCAUX_5, L13 VCCINT_5, M8 VCCPAUX_1, M12 VCCINT_4, M16 VCCO_35_6, N7 VCCPINT_3, N9 VCCAUX_4, N11 VCCAUX_1, N13 VCCINT_3, N19 VCCO_34_1, P2 VCCO_DDR_502_7, P6 PS_DDR_VREF0_502_2, P8 VCCPINT_2, P10 VCCAUX_3, P12 VCCINT_2, R5 VCCO_DDR_502_8, R7 VCCPINT_1, R9 VCCAUX_2, R13 VCCINT_1, R15 VCCO_34_2, T8 VCCO_13_1, T18 VCCO_34_3, U1 VCCO_DDR_502_9, U11 VCCO_13_2, V4 VCCO_DDR_502_10, V14 VCCO_34_4, W7 VCCO_13_3, W17 VCCO_34_5, Y10 VCCO_13_4, Y20 VCCO_34_6
part I pins: A8 GND, A18 GND, B1 GND, B11 GND, C4 GND, C9 GND, C14 GND, D17 GND, E10 GND, E20 GND, F3 GND, F7 GND, G10 GND, G12 GND, G16 GND, H7 GND, H9 GND, H11 GND, H13 GND, H19 GND, J2 GND, J8 GND, J12 GND, K5 GND, K7 GND, K11 GND, K13 GND, K15 GND, L8 GND, L12 GND, L18 GND, M1 GND, M7 GND, M11 GND, M13 GND, N4 GND, N8 GND, N10 GND, N12 GND, N14 GND, P7 GND, P9 GND, P11 GND, P13 GND, P17 GND, R8 GND, R12 GND, R20 GND, T3 GND, T7 GND, T13 GND, U6 GND, U16 GND, V9 GND, V19 GND, W2 GND, W12 GND, Y5 GND, Y15 GND
part A text: BANK0
part B text: BANK500
part C text: BANK501
part D text: BANK502
part E text: BANK34
part F text: BANK35
part G text: BANK13
part H text: IO/CORE; POWER